# EAGLE library part 736-762 (library con-wago_736)
Serie 736, Doppelstock-Klemmenleiste für Leiterplatten 2 Lötstifte um das halbe Rastermaß versetzt / Series 736, Double-deck PCB terminal strip 2 solder pins staggered by half the pin spacing Polzahl / Pole No.: 12 Rastermaß / Pitch: 10 mm Bemessungsspannung / Rated Voltage: 1000 V Nennstrom / Nominal Current: 21 A Leiterquerschnitt / Conductor Size: 0.08 - 2.5 mm² Anschlusstechnik / Connection Technology: CAGE CLAMP® Lötstiftlänge: / Solder Pin Length: 4 mm Leitereinführung (zur Platine) / Conductor entry angle (to PCB): 45 ° Farbe / Color: grau / gray Stand: 01.01.2012. Die jeweils aktuellen Daten zu diesem Artikel finden Sie in unserem Produktkatalog, den Sie unter www.wago.com einsehen können. As of: 01/01/2012. Please find the newest data for this article in our product catalogue, which can be viewed under www.wago.com.
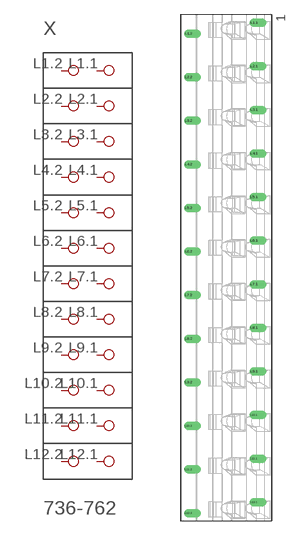
[diagram p35: symbol with the pads of P-736-762; footprint P-736-762]

Designator prefix X

## 736-762  [P-736-762]
L1.1  P1.1
L1.2  P1.2
L2.1  P2.1
L2.2  P2.2
L3.1  P3.1
L3.2  P3.2
L4.1  P4.1
L4.2  P4.2
L5.1  P5.1
L5.2  P5.2
L6.1  P6.1
L6.2  P6.2
L7.1  P7.1
L7.2  P7.2
L8.1  P8.1
L8.2  P8.2
L9.1  P9.1
L9.2  P9.2
L10.1  P10.1
L10.2  P10.2
L11.1  P11.1
L11.2  P11.2
L12.1  P12.1
L12.2  P12.2

## Footprint P-736-762 (pad centres in mm)
drill 1.3 offset: L1.1 6.4,56.25; L1.2 -8.6,53.75; L2.1 6.4,46.25; L2.2 -8.6,43.75; L3.1 6.4,36.25; L3.2 -8.6,33.75; L4.1 6.4,26.25; L4.2 -8.6,23.75; L5.1 6.4,16.25; L5.2 -8.6,13.75; L6.1 6.4,6.25; L6.2 -8.6,3.75; L7.1 6.4,-3.75; L7.2 -8.6,-6.25; L8.1 6.4,-13.75; L8.2 -8.6,-16.25; L9.1 6.4,-23.75; L9.2 -8.6,-26.25; L10.1 6.4,-33.75; L10.2 -8.6,-36.25; L11.1 6.4,-43.75; L11.2 -8.6,-46.25; L12.1 6.4,-53.75; L12.2 -8.6,-56.25